# Altium footprint library 760390015.PCBLIB: 1 footprints
Each footprint in its own frame and in the unit in brackets; x right, y up, seen from the top. Pads: shape width x height; smd on the part's side, far side on the other; paste and mask are expansions set on the pad; w line width, h text height; cw(c..) or ccw(c..) is an arc to the next point about the centre after c.
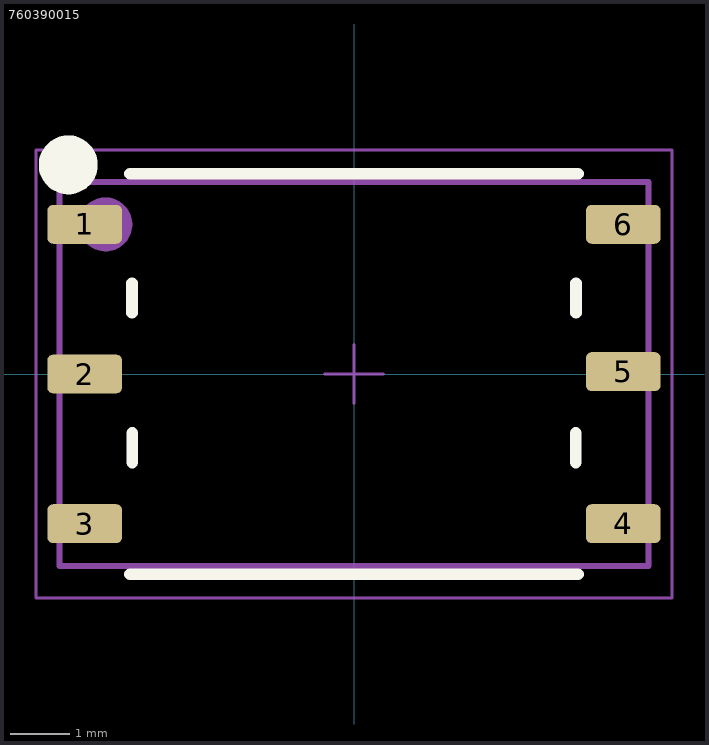
[diagram p0: the footprint, top view; thin cyan lines are the x and y axes]

## 760390015 [mm]
height 0.55
pads (6):
  rrect30% 1.27x0.66 smd: 1(-4.57,2.54) 2(-4.57,0) 3(-4.57,-2.54) 4(4.57,-2.54) 5(4.57,0.04) 6(4.57,2.54)
Top Overlay:
  circle w0.5: c-4.85,3.55 r0.25
  lines w0.2: -3.8,-3.4 3.8,-3.4 ; -3.8,3.4 3.8,3.4 ; -3.77,1.04 -3.77,1.54 ; -3.762,-1.5 -3.762,-1 ; 3.762,-1.5 3.762,-1 ; 3.77,1.04 3.77,1.54
Top Assembly:
  circle w0.457: c-4.22,2.54 r0.229
  lines w0.1: -5,-3.26 5,-3.26 5,3.26 -5,3.26 -5,-3.26
Top Courtyard:
  lines w0.05: -5.4,-3.8 -5.4,3.8 5.4,3.8 5.4,-3.8 -5.4,-3.8
Top Designator:
  text ".Designator" at -1.07,-0.06 h1
Top Component Center:
  lines w0.05: -0.5,0 0.5,0 ; 0,-0.5 0,0.5
3D body "250-1109 (rev1).STEP": height 4.06, standoff 0, extent -4.98,-3.23 4.98,3.25